# Altium footprint library sanziqi.PcbLib: 62 footprints (part 4 of 4)
Each footprint in its own frame and in the unit in brackets; x right, y up, seen from the top. Pads: shape width x height; smd on the part's side, far side on the other; paste and mask are expansions set on the pad; w line width, h text height; cw(c..) or ccw(c..) is an arc to the next point about the centre after c.
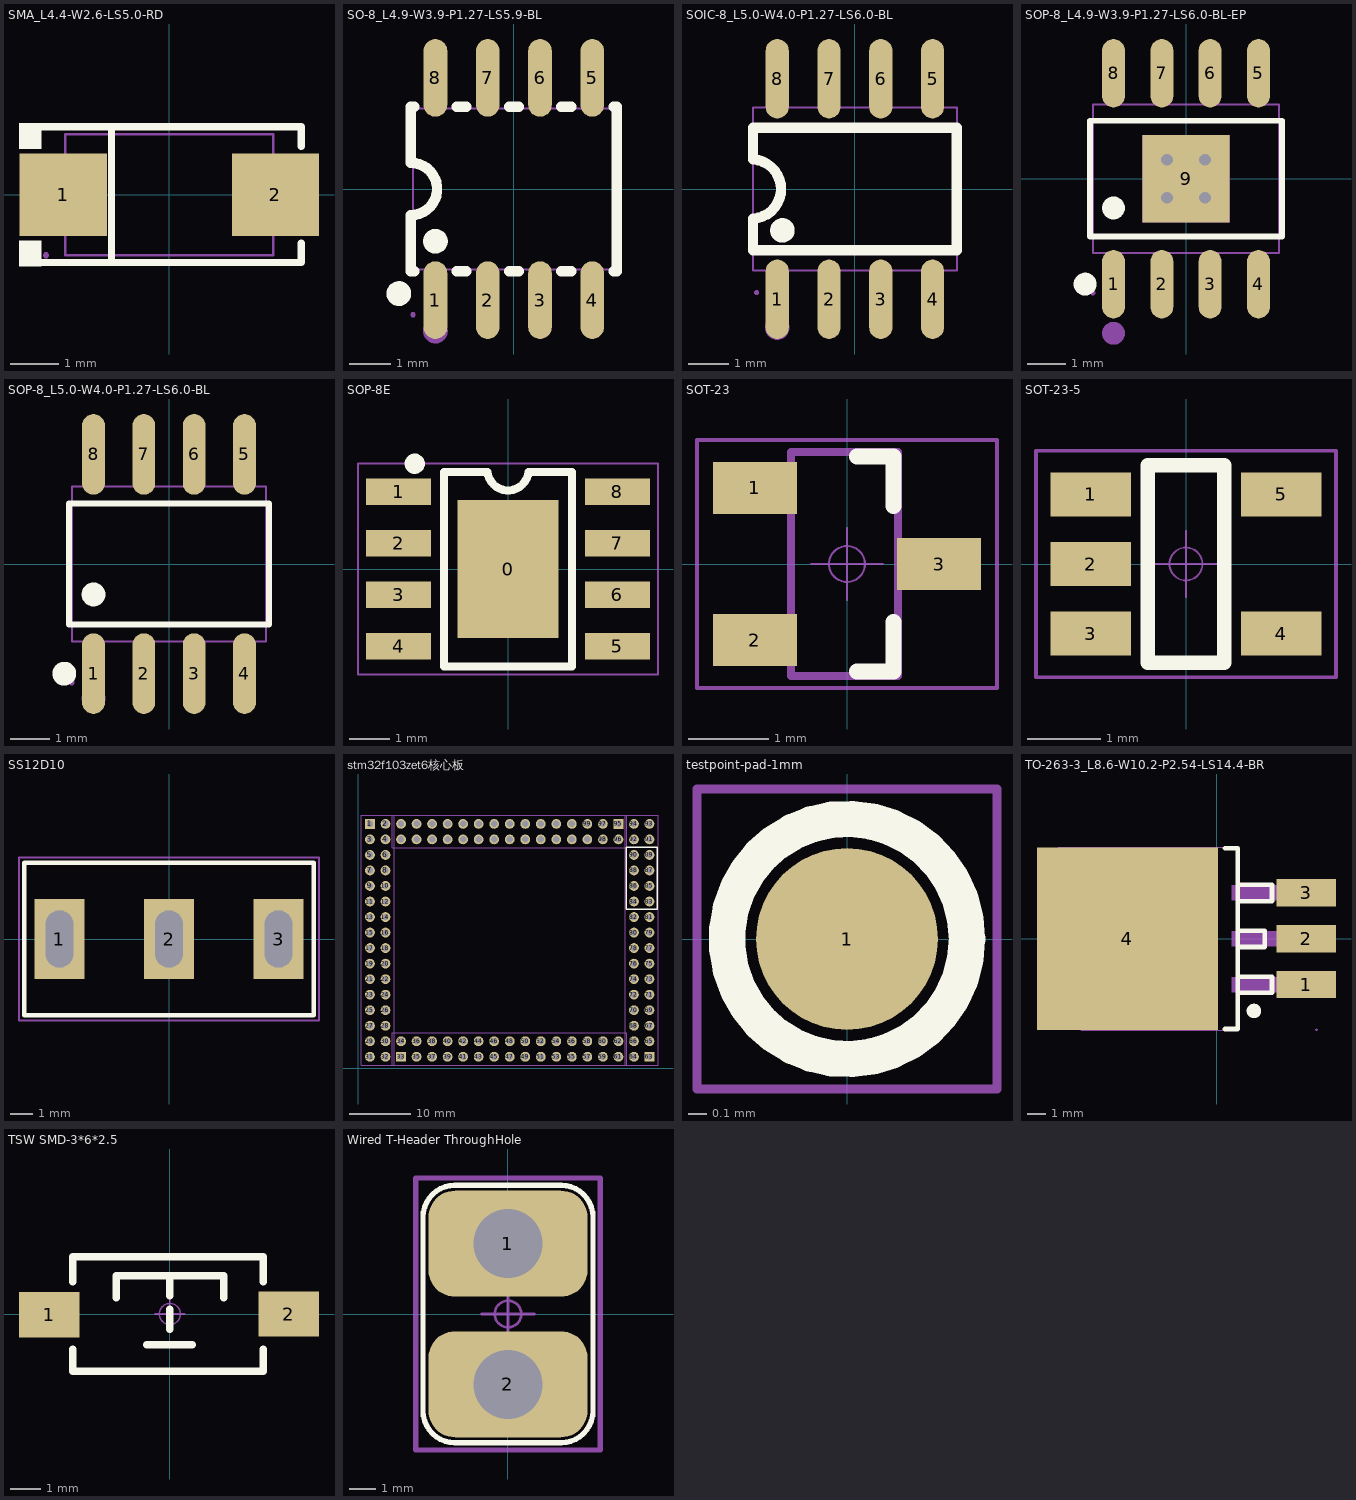
[diagram p3: the footprints below, top view; thin cyan lines are the x and y axes]

## SMA_L4.4-W2.6-LS5.0-RD [mm]
pads (2):
  rect 1.8x1.7 smd: 1(-2.193,0) 2(2.193,0)
Top Overlay:
  region: -2.65,1.477 -2.65,0.949 -3.107,0.949 -3.107,1.477
  region: -2.65,-1.477 -2.65,-0.949 -3.107,-0.949 -3.107,-1.477
  lines w0.152: -2.726,-1.401 2.726,-1.401 2.726,-1 ; -2.726,1.401 2.726,1.401 2.726,1 ; -1.197,-1.401 -1.197,1.401
Mechanical 6:
  region: -2.451,-0.099 -2.451,0.099 -1.656,0.099 -1.656,-0.099
  region: 2.451,-0.099 2.451,0.099 1.656,0.099 1.656,-0.099
  region: 2.153,-0.663 2.153,0.663 1.954,0.663 1.954,-0.663
Mechanical 15:
  region: -2.49,-1.25 -2.49,-1.225 -2.525,-1.19 -2.575,-1.19 -2.61,-1.225 -2.61,-1.25 -2.61,-1.275 -2.575,-1.31 -2.525,-1.31 -2.49,-1.275 -2.49,-1.25
  region: -1.35,0.725 -1.35,-0.725 -2.55,-0.725 -2.55,0.725
  region: 1.35,-0.725 1.35,0.725 2.55,0.725 2.55,-0.725
  lines w0.051: -2.15,-1.25 -2.15,1.25 2.15,1.25 2.15,-1.25 -2.15,-1.25

## SO-8_L4.9-W3.9-P1.27-LS5.9-BL [mm]
pads (8):
  oval 0.574x1.888 smd: 1(-1.905,-2.699) 2(-0.635,-2.699) 3(0.635,-2.699) 4(1.905,-2.699) 5(1.905,2.699) 6(0.635,2.699) 7(-0.635,2.699) 8(-1.905,2.699)
Top Overlay:
  circle w0.3: c-2.794,-2.54 r0.15
  circle w0.3: c-1.905,-1.27 r0.15
  lines w0.254: -2.421,-2 -2.5,-2 -2.5,-0.635 ccw(c-2.5,0) -2.499,0.635 -2.5,2 -2.421,2 ; -1.389,-2 -1.151,-2 ; -1.389,2 -1.151,2 ; -0.119,-2 0.119,-2 ; -0.119,2 0.119,2 ; 1.151,-2 1.389,-2 ; 1.151,2 1.389,2 ; 2.421,-2 2.5,-2 2.5,2 2.421,2
Mechanical 6:
  circle w0.3: c-1.905,-3.45 r0.15
Mechanical 15:
  region: 1.7,2.55 1.7,1.945 2.11,1.945 2.11,2.55
  region: 1.7,3.05 1.7,2.54 2.11,2.54 2.11,3.05
  region: 0.43,2.55 0.43,1.945 0.84,1.945 0.84,2.55
  region: 0.43,3.05 0.43,2.54 0.84,2.54 0.84,3.05
  region: -0.84,2.55 -0.84,1.945 -0.43,1.945 -0.43,2.55
  region: -0.84,3.05 -0.84,2.54 -0.43,2.54 -0.43,3.05
  region: -2.11,2.55 -2.11,1.945 -1.7,1.945 -1.7,2.55
  region: -2.11,3.05 -2.11,2.54 -1.7,2.54 -1.7,3.05
  region: 1.7,-2.55 1.7,-1.945 2.11,-1.945 2.11,-2.55
  region: 1.7,-3.05 1.7,-2.54 2.11,-2.54 2.11,-3.05
  region: 0.43,-2.55 0.43,-1.945 0.84,-1.945 0.84,-2.55
  region: 0.43,-3.05 0.43,-2.54 0.84,-2.54 0.84,-3.05
  region: -0.84,-2.55 -0.84,-1.945 -0.43,-1.945 -0.43,-2.55
  region: -0.84,-3.05 -0.84,-2.54 -0.43,-2.54 -0.43,-3.05
  region: -2.11,-2.55 -2.11,-1.945 -1.7,-1.945 -1.7,-2.55
  region: -2.11,-3.05 -2.11,-2.54 -1.7,-2.54 -1.7,-3.05
  region: -2.39,-3.05 -2.39,-3.025 -2.425,-2.99 -2.475,-2.99 -2.51,-3.025 -2.51,-3.05 -2.51,-3.075 -2.475,-3.11 -2.425,-3.11 -2.39,-3.075 -2.39,-3.05
  lines w0.051: -2.45,-1.955 2.45,-1.955 2.45,1.955 -2.45,1.955 -2.45,-1.955

## SOIC-8_L5.0-W4.0-P1.27-LS6.0-BL [mil]
pads (8):
  oval 22.38x76.78 smd: 1(-75,-106.5) 2(-25,-106.5) 3(25,-106.5) 4(75,-106.5) 5(75,106.5) 6(25,106.5) 7(-25,106.5) 8(-75,106.5)
Top Overlay:
  circle w11.81: c-70,-40 r5.91
  lines w10: -98.43,-28.61 ccw(c-99.99,0) -98.23,28.59 ; -98.42,-28.61 -98.42,-59.05 98.42,-59.05 98.42,59.05 -98.42,59.05 -98.42,28.59
Mechanical 6:
  circle w11.81: c-75,-133.86 r5.91
Mechanical 15:
  region: -83.07,-118.11 -83.07,-85.24 -66.93,-85.24 -66.93,-118.11
  region: -83.07,-85.63 -83.07,-76.38 -66.93,-76.38 -66.93,-85.63
  region: -33.07,-118.11 -33.07,-85.24 -16.93,-85.24 -16.93,-118.11
  region: -33.07,-85.63 -33.07,-76.38 -16.93,-76.38 -16.93,-85.63
  region: 16.93,-118.11 16.93,-85.24 33.07,-85.24 33.07,-118.11
  region: 16.93,-85.63 16.93,-76.38 33.07,-76.38 33.07,-85.63
  region: 66.93,-118.11 66.93,-85.24 83.07,-85.24 83.07,-118.11
  region: 66.93,-85.63 66.93,-76.38 83.07,-76.38 83.07,-85.63
  region: -83.07,85.24 -83.07,118.11 -66.93,118.11 -66.93,85.24
  region: -83.07,76.38 -83.07,85.63 -66.93,85.63 -66.93,76.38
  region: -33.07,85.24 -33.07,118.11 -16.93,118.11 -16.93,85.24
  region: -33.07,76.38 -33.07,85.63 -16.93,85.63 -16.93,76.38
  region: 16.93,85.24 16.93,118.11 33.07,118.11 33.07,85.24
  region: 16.93,76.38 16.93,85.63 33.07,85.63 33.07,76.38
  region: 66.93,85.24 66.93,118.11 83.07,118.11 83.07,85.24
  region: 66.93,76.38 66.93,85.63 83.07,85.63 83.07,76.38
  region: -92.64,-100 -92.64,-99.02 -94.02,-97.64 -95.98,-97.64 -97.36,-99.02 -97.36,-100 -97.36,-100.98 -95.98,-102.36 -94.02,-102.36 -92.64,-100.98 -92.64,-100
  lines w2: -98.42,-78.74 98.42,-78.74 98.42,78.74 -98.42,78.74 -98.42,-78.74

## SOP-8_L4.9-W3.9-P1.27-LS6.0-BL-EP [mm]
pads (9):
  oval 0.6x1.8 smd: 1(-1.905,-2.772) 2(-0.635,-2.772) 3(0.635,-2.772) 4(1.905,-2.772) 5(1.905,2.772) 6(0.635,2.772) 7(-0.635,2.772) 8(-1.905,2.772)
  rect 2.29x2.29 smd: 9(0,0)
via 0.5,0.5 diameter 0.61 hole 0.305
via 0.5,-0.5 diameter 0.61 hole 0.305
via -0.5,-0.5 diameter 0.61 hole 0.305
via -0.5,0.5 diameter 0.61 hole 0.305
Top Overlay:
  circle w0.3: c-2.652,-2.772 r0.15
  circle w0.3: c-1.905,-0.769 r0.15
  lines w0.152: -2.526,-1.521 2.526,-1.521 2.526,1.521 -2.526,1.521 -2.526,-1.521
Mechanical 6:
  circle w0.3: c-1.905,-4.064 r0.15
Mechanical 15:
  region: -1.145,-1.145 -1.145,1.145 1.145,1.145 1.145,-1.145
  region: 1.695,2.175 1.695,1.94 2.115,1.94 2.115,2.175
  region: 1.695,3 1.695,2.165 2.115,2.165 2.115,3
  region: 0.425,2.175 0.425,1.94 0.845,1.94 0.845,2.175
  region: 0.425,3 0.425,2.165 0.845,2.165 0.845,3
  region: -0.845,2.175 -0.845,1.94 -0.425,1.94 -0.425,2.175
  region: -0.845,3 -0.845,2.165 -0.425,2.165 -0.425,3
  region: -2.115,2.175 -2.115,1.94 -1.695,1.94 -1.695,2.175
  region: -2.115,3 -2.115,2.165 -1.695,2.165 -1.695,3
  region: 1.695,-2.175 1.695,-1.94 2.115,-1.94 2.115,-2.175
  region: 1.695,-3 1.695,-2.165 2.115,-2.165 2.115,-3
  region: 0.425,-2.175 0.425,-1.94 0.845,-1.94 0.845,-2.175
  region: 0.425,-3 0.425,-2.165 0.845,-2.165 0.845,-3
  region: -0.845,-2.175 -0.845,-1.94 -0.425,-1.94 -0.425,-2.175
  region: -0.845,-3 -0.845,-2.165 -0.425,-2.165 -0.425,-3
  region: -2.115,-2.175 -2.115,-1.94 -1.695,-1.94 -1.695,-2.175
  region: -2.115,-3 -2.115,-2.165 -1.695,-2.165 -1.695,-3
  region: -2.39,-3 -2.391,-2.976 -2.426,-2.941 -2.475,-2.941 -2.51,-2.976 -2.51,-3 -2.51,-3.024 -2.475,-3.059 -2.426,-3.059 -2.391,-3.024 -2.39,-3
  lines w0.051: -2.45,-1.95 2.45,-1.95 2.45,1.95 -2.45,1.95 -2.45,-1.95

## SOP-8_L5.0-W4.0-P1.27-LS6.0-BL [mm]
pads (8):
  oval 0.574x2.036 smd: 1(-1.905,-2.768) 2(-0.635,-2.768) 3(0.635,-2.768) 4(1.905,-2.768) 5(1.905,2.768) 6(0.635,2.768) 7(-0.635,2.768) 8(-1.905,2.768)
Top Overlay:
  circle w0.3: c-2.644,-2.768 r0.15
  circle w0.3: c-1.905,-0.769 r0.15
  lines w0.152: -2.526,-1.521 2.526,-1.521 2.526,1.521 -2.526,1.521 -2.526,-1.521
Mechanical 6:
  circle w0.3: c-1.905,-3.398 r0.15
Mechanical 15:
  region: 1.7,2.172 1.7,1.94 2.11,1.94 2.11,2.172
  region: 1.7,2.998 1.7,2.163 2.11,2.163 2.11,2.998
  region: 0.43,2.172 0.43,1.94 0.84,1.94 0.84,2.172
  region: 0.43,2.998 0.43,2.163 0.84,2.163 0.84,2.998
  region: -0.84,2.172 -0.84,1.94 -0.43,1.94 -0.43,2.172
  region: -0.84,2.998 -0.84,2.163 -0.43,2.163 -0.43,2.998
  region: -2.11,2.172 -2.11,1.94 -1.7,1.94 -1.7,2.172
  region: -2.11,2.998 -2.11,2.163 -1.7,2.163 -1.7,2.998
  region: 1.7,-2.172 1.7,-1.94 2.11,-1.94 2.11,-2.172
  region: 1.7,-2.998 1.7,-2.163 2.11,-2.163 2.11,-2.998
  region: 0.43,-2.172 0.43,-1.94 0.84,-1.94 0.84,-2.172
  region: 0.43,-2.998 0.43,-2.163 0.84,-2.163 0.84,-2.998
  region: -0.84,-2.172 -0.84,-1.94 -0.43,-1.94 -0.43,-2.172
  region: -0.84,-2.998 -0.84,-2.163 -0.43,-2.163 -0.43,-2.998
  region: -2.11,-2.172 -2.11,-1.94 -1.7,-1.94 -1.7,-2.172
  region: -2.11,-2.998 -2.11,-2.163 -1.7,-2.163 -1.7,-2.998
  region: -2.39,-2.997 -2.391,-2.973 -2.426,-2.939 -2.475,-2.939 -2.51,-2.973 -2.51,-2.997 -2.51,-3.022 -2.475,-3.056 -2.426,-3.056 -2.391,-3.022 -2.39,-2.997
  lines w0.051: -2.45,-1.95 2.45,-1.95 2.45,1.95 -2.45,1.95 -2.45,-1.95

## SOP-8E [mm]
height 2
pads (9):
  rect 2.5x3.4 smd: 0(0,0)
  rect 1.6x0.65 smd: 1(-2.7,1.905) 2(-2.7,0.635) 3(-2.7,-0.635) 4(-2.7,-1.905) 5(2.7,-1.905) 6(2.7,-0.635) 7(2.7,0.635) 8(2.7,1.905)
Top Overlay:
  circle w0.25: c-2.3,2.6 r0.125
  lines w0.2: -0.508,2.4 -1.575,2.4 -1.575,-2.4 1.575,-2.4 1.575,2.4 0.508,2.4 ; -0.505,2.399 ccw(c0,2.45) 0.505,2.399
Top Component Center:
  circle w0.05: c0,0 r0.35
  lines w0.05: -0.5,0 0.5,0 ; 0,-0.5 0,0.5
Top Component Outline:
  lines w0.05: -3.7,-2.6 -3.7,2.6 3.7,2.6 3.7,-2.6 -3.7,-2.6
Top Designator:
  text ".Designator" at -2.252,-0.114 h1
3D body "SOIC8.STEP": height 1.75, standoff 0, extent -3.105,-2.45 3.105,2.45

## SOT-23 [mm]
height 2
pads (3):
  rect 1.05x0.65 smd: 1(-1.15,0.95) 2(-1.15,-0.95) 3(1.15,0)
Top Overlay:
  lines w0.2: 0.127,-1.346 0.584,-1.346 0.584,-0.725 ; 0.127,1.346 0.584,1.346 0.584,0.725
Top Component Center:
  circle w0.025: c0,0 r0.225
  lines w0.025: -0.45,0 0.45,0 ; 0,-0.45 0,0.45
Top Component Outline:
  lines w0.05: -1.875,-1.55 1.875,-1.55 1.875,1.55 -1.875,1.55 -1.875,-1.55
Top Designator:
  text ".Designator" at -2.252,-0.226 h1
Mechanical 13:
  lines w0.1: -0.7,-1.397 0.635,-1.397 0.635,1.397 -0.7,1.397 -0.7,-1.397
3D body "SOT-23-3P.STEP": height 1.2, standoff 0, extent -1.4,-1.45 1.4,1.45

## SOT-23-5 [mm]
height 2
pads (5):
  rect 1.1x0.6 smd: 1(-1.3,0.95) 2(-1.3,0) 3(-1.3,-0.95) 4(1.3,-0.95) 5(1.3,0.95)
Top Overlay:
  lines w0.2: -0.525,-1.35 0.525,-1.35 0.525,1.35 -0.525,1.35 -0.525,-1.35
Top Component Center:
  circle w0.025: c0,0 r0.225
  lines w0.025: -0.45,0 0.45,0 ; 0,-0.45 0,0.45
Top Component Outline:
  lines w0.05: -2.05,-1.55 2.05,-1.55 2.05,1.55 -2.05,1.55 -2.05,-1.55
Top Designator:
  text ".Designator" at -2.252,-0.226 h1
3D body "SOT-5.stp": height 1.08, standoff -0.01, extent -1.423,-1.461 1.422,1.46

## SS12D10 [mm]
height 2
pads (3):
  rect 2.2x3.5 hole 2.5 slot 1.2 at 0 deg mask+0.07: 1(-4.8,0) 2(0,0) 3(4.8,0)
Top Overlay:
  lines w0.2: -6.35,-3.35 6.35,-3.35 6.35,3.35 -6.35,3.35 -6.35,-3.3
Top Component Center:
  circle w0.1: c0,0 r0.5
  lines w0.1: -1,0 1,0 ; 0,-1 0,1
Top Component Outline:
  lines w0.1: -6.575,-3.575 -6.575,3.575 6.575,3.575 6.575,-3.575 -6.575,-3.575
Top Designator:
  text ".Designator" at -2.252,-0.138 h1
3D body "ms-13aap1.stp": height 12.5, standoff -5.4, extent -6.4,-3.3 6.35,3.8

## stm32f103zet6核心板 [mm]
pads (124):
  rect 1.6x1.6 hole 1.05: 1(1.905,40.005) 33(6.985,1.905) 63(47.625,1.905) 95(42.545,40.005)
  round 1.6 hole 1.05: 2(4.445,40.005) 3(1.905,37.465) 4(4.445,37.465) 5(1.905,34.925) 6(4.445,34.925) 7(1.905,32.385) 8(4.445,32.385) 9(1.905,29.845) 10(4.445,29.845) 11(1.905,27.305) 12(4.445,27.305) 13(1.905,24.765) 14(4.445,24.765) 15(1.905,22.225) 16(4.445,22.225) 17(1.905,19.685) 18(4.445,19.685) 19(1.905,17.145) 20(4.445,17.145) 21(1.905,14.605) 22(4.445,14.605) 23(1.905,12.065) 24(4.445,12.065) 25(1.905,9.525) 26(4.445,9.525) 27(1.905,6.985) 28(4.445,6.985) 29(1.905,4.445) 30(4.445,4.445) 31(1.905,1.905) 32(4.445,1.905) 34(6.985,4.445) 35(9.525,1.905) 36(9.525,4.445) 37(12.065,1.905) 38(12.065,4.445) 39(14.605,1.905) 40(14.605,4.445) 41(17.145,1.905) 42(17.145,4.445) 43(19.685,1.905) 44(19.685,4.445) 45(22.225,1.905) 46(22.225,4.445) 47(24.765,1.905) 48(24.765,4.445) 49(27.305,1.905) 50(27.305,4.445) 51(29.845,1.905) 52(29.845,4.445) 53(32.385,1.905) 54(32.385,4.445) 55(34.925,1.905) 56(34.925,4.445) 57(37.465,1.905) 58(37.465,4.445) 59(40.005,1.905) 60(40.005,4.445) 61(42.545,1.905) 62(42.545,4.445) 64(45.085,1.905) 65(47.625,4.445) 66(45.085,4.445) 67(47.625,6.985) 68(45.085,6.985) 69(47.625,9.525) 70(45.085,9.525) 71(47.625,12.065) 72(45.085,12.065) 73(47.625,14.605) 74(45.085,14.605) 75(47.625,17.145) 76(45.085,17.145) 77(47.625,19.685) 78(45.085,19.685) 79(47.625,22.225) 80(45.085,22.225) 81(47.625,24.765) 82(45.085,24.765) 83(47.625,27.305) 84(45.085,27.305) 85(47.625,29.845) 86(45.085,29.845) 87(47.625,32.385) 88(45.085,32.385) 89(47.625,34.925) 90(45.085,34.925) 91(47.625,37.465) 92(45.085,37.465) 93(47.625,40.005) 94(45.085,40.005) 96(42.545,37.465) 97(40.005,40.005) 98(40.005,37.465) 99(37.465,40.005) 100(37.465,37.465) 101(34.925,40.005) 102(34.925,37.465) 103(32.385,40.005) 104(32.385,37.465) 105(29.845,40.005) 106(29.845,37.465) 107(27.305,40.005) 108(27.305,37.465) 109(24.765,40.005) 110(24.765,37.465) 111(22.225,40.005) 112(22.225,37.465) 113(19.685,40.005) 114(19.685,37.465) 115(17.145,40.005) 116(17.145,37.465) 117(14.605,40.005) 118(14.605,37.465) 119(12.065,40.005) 120(12.065,37.465) 121(9.525,40.005) 122(9.525,37.465) 123(6.985,40.005) 124(6.985,37.465)
Top Overlay:
  lines w0.254: 43.815,26.035 43.815,36.195 48.895,36.195 48.895,26.035 43.815,26.035
Bottom Overlay:
  circle w0.254: c0.127,41.656 r0.18
  lines w0.254: 0.635,38.735 3.175,38.735 3.175,41.275 ; 5.715,3.175 8.255,3.175 8.255,0.635 ; 41.275,41.275 41.275,38.735 43.815,38.735 ; 46.355,0.635 46.355,3.175 48.895,3.175 ; 5.715,0.635 5.715,41.275 ; 5.715,0.635 0.635,0.635 0.635,41.275 5.715,41.275 ; 5.715,0.635 43.815,0.635 ; 5.715,0.635 5.715,5.715 43.815,5.715 43.815,0.635 ; 5.715,41.275 43.815,41.275 ; 5.715,41.275 5.715,36.195 43.815,36.195 43.815,41.275 ; 43.815,0.635 43.815,41.275 ; 43.815,0.635 48.895,0.635 48.895,41.275 43.815,41.275
Mechanical 15:
  drawing of 140 lines, arcs and shapes, not listed

## testpoint-pad-1mm [mm]
height 2
pads (1):
  round 1 smd: 1(0,0)
Top Overlay:
  circle w0.2: c0,0 r0.66
Top Component Outline:
  lines w0.05: -0.825,-0.825 -0.825,0.825 0.825,0.825 0.825,-0.825 -0.825,-0.825
Top Designator:
  text ".Designator" at -2.252,-0.226 h1

## TO-263-3_L8.6-W10.2-P2.54-LS14.4-BR [mm]
pads (4):
  rect 3.3x1.511 smd: 1(4.952,-2.54) 2(4.952,0) 3(4.952,2.54)
  rect 10.02x10.122 smd: 4(-4.952,0)
Top Overlay:
  lines w0.254: 0.456,-5.001 1.157,-5.001 1.157,5.001 0.456,5.001 ; 1.157,-3 3.057,-3 3.057,-2.101 1.157,-2.101 ; 1.157,-0.46 2.655,-0.46 2.655,0.439 1.157,0.439 ; 1.157,2.08 3.057,2.08 3.057,2.979 1.157,2.979
  lines w0.399: 2.053,-4.201 cw(c2.055,-4.001) 2.055,-3.8 cw(c2.055,-4.001) 2.056,-4.201
Mechanical 6:
  circle w0.6: c5.716,-2.515 r0.3
Mechanical 15:
  region: 5.581,-5.05 5.581,-5.025 5.546,-4.99 5.496,-4.99 5.461,-5.025 5.461,-5.05 5.461,-5.075 5.496,-5.11 5.546,-5.11 5.581,-5.075 5.581,-5.05
  region: -8.787,-5.055 -8.787,5.055 -2.187,5.055 -2.187,-5.055
  region: 0.839,2.134 0.839,2.964 3.689,2.964 3.689,2.134
  region: 3.551,-0.42 3.551,0.42 5.551,0.42 5.551,-0.42
  region: 3.551,2.12 3.551,2.96 5.551,2.96 5.551,2.12
  region: 3.551,-2.96 3.551,-2.12 5.551,-2.12 5.551,-2.96
  region: 0.839,-2.955 0.839,-2.125 3.689,-2.125 3.689,-2.955
  region: 0.839,-0.406 0.839,0.424 3.689,0.424 3.689,-0.406
  lines w0.051: -7.517,-5.08 -7.517,5.08 1.123,5.08 1.123,-5.08 -7.517,-5.08

## TSW SMD-3*6*2.5 [mm] "3*6*2.5mm"
pads (2):
  rect 2x1.5 smd: 1(-3.996,-0.02) 2(3.937,0)
Top Overlay:
  lines w0.254: -3.212,-1.168 -3.212,-1.9 3.088,-1.9 3.088,-1.168 ; -3.212,1.067 -3.212,1.9 3.088,1.9 3.088,1.067 ; -1.778,0.533 -1.778,1.27 1.778,1.27 1.778,0.533 ; -0.762,-1.016 0.737,-1.016 ; 0,-0.508 0,0.152 ; 0,0.61 0,1.27
Mechanical 15:
  circle w0.05: c0,0 r0.35
  lines w0.05: -0.5,0 0.5,0 ; 0,-0.5 0,0.5
3D body "TSW SMD-3x6x2.5.STEP": height 2.59, standoff -0.03, extent -4,-1.877 4,1.623

## Wired T-Header ThroughHole [mm]
height 2
pads (2):
  rrect50% 6x4 hole 2.6: 1(0,2.65) 2(0,-2.65)
Top Overlay:
  lines w0.203: -3.2,-3.65 ccw(c-2,-3.65) -2,-4.85 2,-4.85 ccw(c2,-3.65) 3.2,-3.65 3.2,3.65 ccw(c2,3.65) 2,4.85 -2,4.85 ccw(c-2,3.65) -3.2,3.65 -3.2,-3.65
Top Component Center:
  circle w0.1: c0,0 r0.5
  lines w0.1: -1,0 1,0 ; 0,-1 0,1
Top Component Outline:
  lines w0.2: -3.475,-5.125 3.475,-5.125 3.475,5.125 -3.475,5.125 -3.475,-5.125
Top Designator:
  text ".Designator" at -2.252,-0.226 h1